# EAGLE library part TFT_LCD_1.8INCH (library tft)
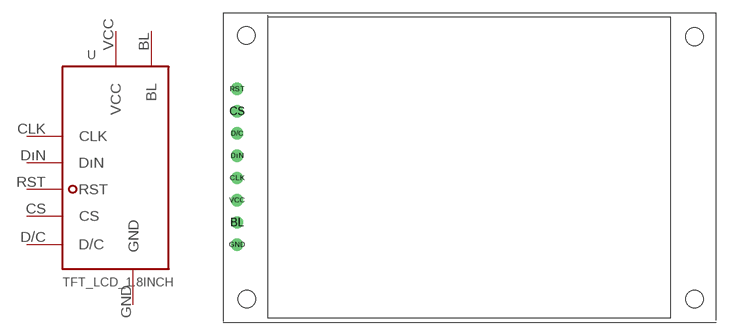
[diagram p0: symbol with the pads of TFT_LCD_1.8INCH; footprint TFT_LCD_1.8INCH]

Designator prefix -

## TFT_LCD_1.8INCH  [TFT_LCD_1.8INCH]
BL  BL
CLK  CLK
CS  CS
D/C  D/C
DıN  DıN
GND  GND
RST  RST
VCC  VCC

## Footprint TFT_LCD_1.8INCH (pad centres in mm)
drill 0.9: BL -20.32,-5.08; CLK -20.32,0; CS -20.32,7.62; D/C -20.32,5.08; DıN -20.32,2.54; GND -20.32,-7.62; RST -20.32,10.16; VCC -20.32,-2.54
hole 2 at 31.866,16.129
hole 2 at 31.866,-13.831
hole 2 at -19.219,-13.831
hole 2 at -19.251,16.256